# EAGLE library part TDA8425 (library Labor)
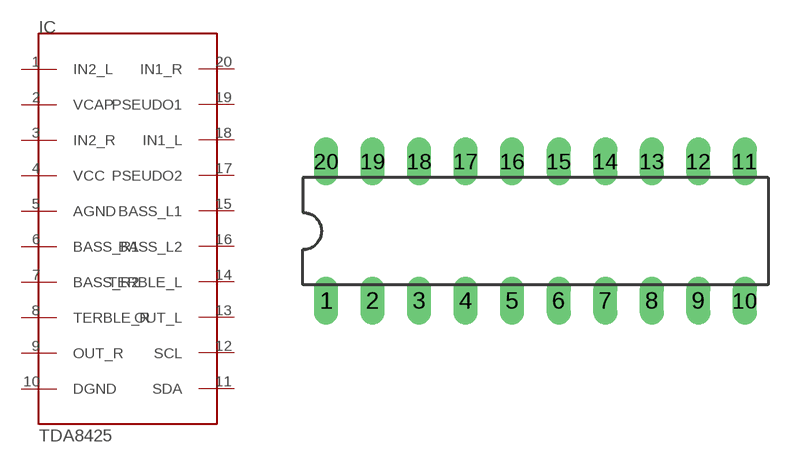
[diagram p5: symbol with the pads of DIL20; footprint DIL20]

Designator prefix IC

## TDA8425  [DIL20]
1  IN2_L  in
2  VCAP
3  IN2_R  in
4  VCC
5  AGND
6  BASS_R1
7  BASS_R2
8  TERBLE_R
9  OUT_R  out
10  DGND
11  SDA
12  SCL  in
13  OUT_L  out
14  TERBLE_L
15  BASS_L1
16  BASS_L2
17  PSEUDO2
18  IN1_L  in
19  PSEUDO1
20  IN1_R  in

## Footprint DIL20 (pad centres in mm)
Dual In Line Package
drill 0.813 long: 1 -11.43,-3.81; 2 -8.89,-3.81; 3 -6.35,-3.81; 4 -3.81,-3.81; 5 -1.27,-3.81; 6 1.27,-3.81; 7 3.81,-3.81; 8 6.35,-3.81; 9 8.89,-3.81; 10 11.43,-3.81; 11 11.43,3.81; 12 8.89,3.81; 13 6.35,3.81; 14 3.81,3.81; 15 1.27,3.81; 16 -1.27,3.81; 17 -3.81,3.81; 18 -6.35,3.81; 19 -8.89,3.81; 20 -11.43,3.81